# Altium footprint library 电容.PcbLib: 62 footprints (part 2 of 4)
Each footprint in its own frame and in the unit in brackets; x right, y up, seen from the top. Pads: shape width x height; smd on the part's side, far side on the other; paste and mask are expansions set on the pad; w line width, h text height; cw(c..) or ccw(c..) is an arc to the next point about the centre after c.
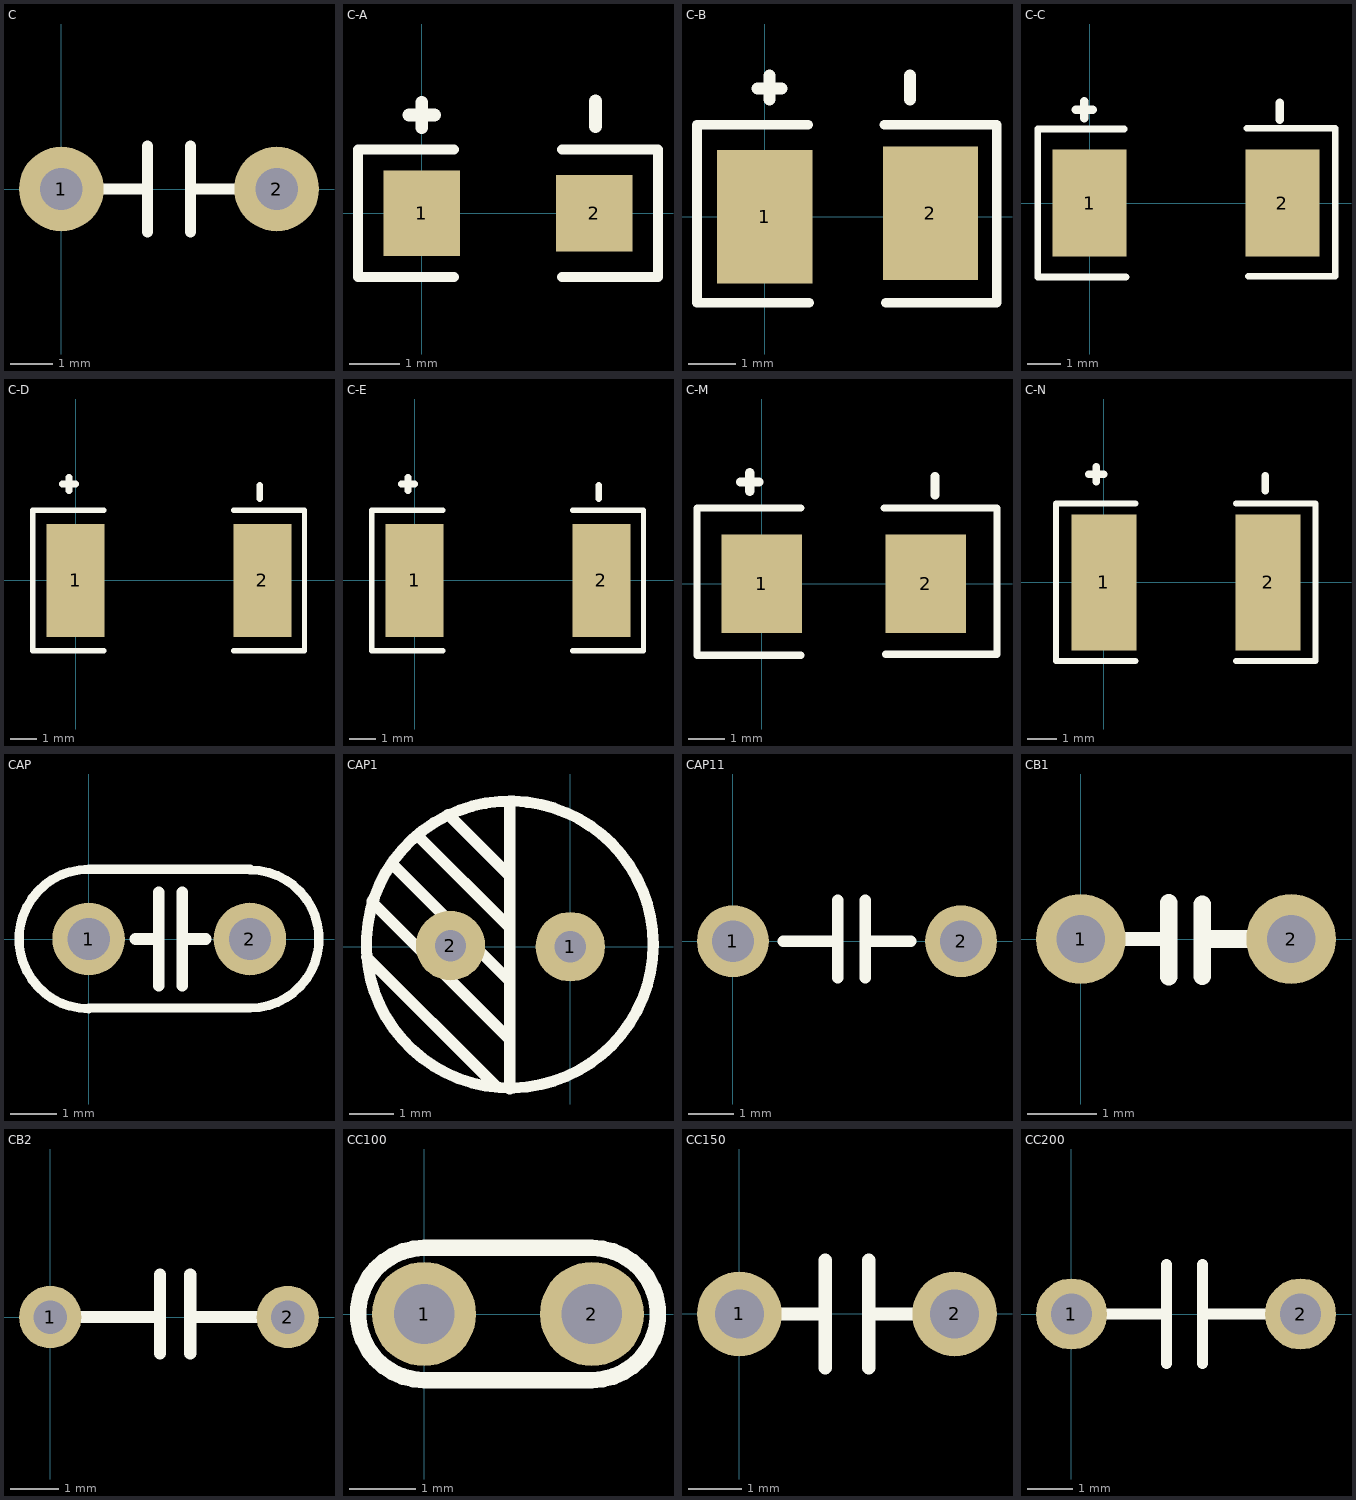
[diagram p1: the footprints below, top view; thin cyan lines are the x and y axes]

## C [mm]
pads (2):
  round 2 hole 1: 1(0,0) 2(5.08,0)
Top Overlay:
  lines w0.254: 1.016,0 1.524,0 2.032,0 2.032,-1.016 2.032,1.016 ; 3.048,-1.016 3.048,1.016 ; 3.048,0 4.064,0

## C-A [mil]
pads (2):
  rect 60x66.93 smd: 1(0,0)
  rect 60x60 smd: 2(135,0)
Top Overlay:
  lines w7.87: 25,-50 -50,-50 -50,50 25,50 ; 110,-50 185,-50 185,50 110,50
  lines w10: -10,77 10,77 ; 0,67 0,87 ; 136,68 136,88

## C-B [mm]
pads (2):
  rect 2x2.8 smd: 1(0,0) 2(3.48,0.076)
Top Overlay:
  lines w0.2: 0.914,1.93 -1.422,1.93 -1.422,-1.803 0.94,-1.803 ; 2.515,1.93 4.877,1.93 4.877,-1.803 2.54,-1.803
  lines w0.254: -0.152,2.692 0.356,2.692 ; 0.102,2.464 0.102,2.972 ; 3.048,2.464 3.048,2.972

## C-C [mm]
pads (2):
  rect 2.2x3.2 smd: 1(0,0) 2(5.766,0)
Top Overlay:
  lines w0.2: 1.041,2.21 -1.549,2.21 -1.549,-2.21 1.092,-2.21 ; 4.699,2.235 7.341,2.235 7.341,-2.184 4.75,-2.184
  lines w0.254: -0.406,2.794 0.102,2.794 ; -0.152,2.54 -0.152,3.048 ; 5.69,2.489 5.69,2.997

## C-D [mm]
pads (2):
  rect 2.2x4.3 smd: 1(0,0) 2(7.087,0)
Top Overlay:
  lines w0.2: 1.067,-2.667 -1.626,-2.667 -1.626,2.667 1.067,2.667 ; 5.994,-2.667 8.687,-2.667 8.687,2.667 5.994,2.667
  lines w0.254: -0.508,3.658 0,3.658 ; -0.254,3.404 -0.254,3.912 ; 6.985,3.099 6.985,3.607

## C-E [mm]
pads (2):
  rect 2.2x4.3 smd: 1(0,0) 2(7.087,0)
Top Overlay:
  lines w0.2: 1.067,-2.667 -1.626,-2.667 -1.626,2.667 1.067,2.667 ; 5.994,-2.667 8.687,-2.667 8.687,2.667 5.994,2.667
  lines w0.254: -0.508,3.658 0,3.658 ; -0.254,3.404 -0.254,3.912 ; 6.985,3.099 6.985,3.607

## C-M [mm]
pads (2):
  rect 2.2x2.7 smd: 1(0,0) 2(4.496,0)
Top Overlay:
  lines w0.2: 1.067,-1.956 -1.778,-1.956 -1.778,2.083 1.067,2.083 ; 3.353,2.083 6.452,2.083 6.452,-1.93 3.404,-1.93
  lines w0.254: -0.584,2.794 -0.076,2.794 ; -0.33,2.54 -0.33,3.048 ; 4.75,2.438 4.75,2.946

## C-N [mm]
pads (2):
  rect 2.2x4.6 smd: 1(0,0) 2(5.563,0)
Top Overlay:
  lines w0.2: 1.067,-2.667 -1.626,-2.667 -1.626,2.667 1.067,2.667 ; 4.47,-2.667 7.163,-2.667 7.163,2.667 4.47,2.667
  lines w0.254: -0.508,3.658 0,3.658 ; -0.254,3.404 -0.254,3.912 ; 5.461,3.099 5.461,3.607

## CAP [mil]
pads (2):
  round 62 hole 36: 1(0,0) 2(137.79,0)
Top Overlay:
  lines w7.87: 0,-59.58 cw(c0,0) 0,59.58 137.79,59.58 ; 0,-59.05 137.79,-59.05 ccw(c137.79,0) 137.79,59.05
  lines w10: 40,0 60,0 ; 60,-40 60,40 ; 80,-40 80,40 ; 80,0 100,0

## CAP1 [mil]
pads (2):
  round 62 hole 28: 1(0,0) 2(-107,1)
Top Overlay:
  circle w10: c-54.06,2 r128.06
  lines w10: -182,-9 -66,-125 ; -177,41 -177,40 -54,-83 ; -159,75 -159,74 -54,-31 ; -136,99 -54,17 ; -109,118 -54,63 ; -54,-127 -54,130

## CAP11 [mil]
pads (2):
  round 62 hole 36: 1(0,0) 2(196.85,0)
Top Overlay:
  lines w10: 43.31,0 90.55,0 ; 90.55,-31.5 90.55,35.43 ; 114.17,-31.5 114.17,35.43 ; 114.17,0 153.54,0

## CB1 [mm]
pads (2):
  round 1.3 hole 0.7: 1(0,0) 2(3.048,0)
Top Overlay:
  lines w0.203: 0,0 1.143,0
  lines w0.254: 1.271,0.522 1.272,-0.546 ; 1.757,-0.54 1.757,0.504 ; 1.778,0 3.048,0

## CB2 [mm]
pads (2):
  round 1.3 hole 0.7: 1(0,0) 2(4.953,0)
Top Overlay:
  lines w0.254: 0.635,0 1.27,0 2.286,0 ; 2.286,-0.762 2.286,0.889 ; 2.921,-0.762 2.921,0.889 ; 3.048,0 4.953,0

## CC100 [mil]
pads (2):
  round 62 hole 36: 1(0,0) 2(100,0)
Top Overlay:
  lines w9.84: 0,-39.37 cw(c0,0) 0,39.37 100,39.37 cw(c100,0) 100,-39.37 0,-39.37

## CC150 [mil]
pads (2):
  round 62 hole 36: 1(0,0) 2(157.48,0)
Top Overlay:
  lines w9.84: 19.68,0 62.99,0 ; 62.99,-39.37 62.99,39.37 ; 94.49,-39.37 94.49,39.37 ; 94.49,0 137.79,0

## CC200 [mil]
pads (2):
  round 62 hole 36: 1(0,0) 2(200,0)
Top Overlay:
  lines w9.84: 0,0 82.99,0 ; 82.99,-43.31 82.99,43.31 ; 114.49,-43.31 114.49,43.31 ; 114.49,0 200,0